# Altium schematic symbol library TPS56A37RPAR.SchLib: 1 symbol
Pins are listed as number, name and electrical type; pins without a type are passive.

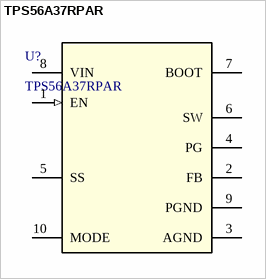
[diagram p0: symbol TPS56A37RPAR]

## TPS56A37RPAR
designator U?
4.5V to 28V input, 10A synchronous buck converter 10-VQFN-HR -40 to 150; Manufacturer_Name: Texas Instruments; TYPE: TYPE; RefDes: RefDes; Copyright: Copyright (C) 2026 Ultra Librarian. All rights reserved.; Manufacturer_Part_Number: TPS56A37RPAR
footprint RPA0010A-MFG
pins: 1 EN (in), 2 FB, 3 AGND (power), 4 PG (oc), 5 SS, 6 SW, 7 BOOT, 8 VIN (power), 9 PGND (power), 10 MODE